# Altium schematic symbol library M2.SchLib: 1 symbol
Pins are listed as number, name and electrical type; pins without a type are passive.

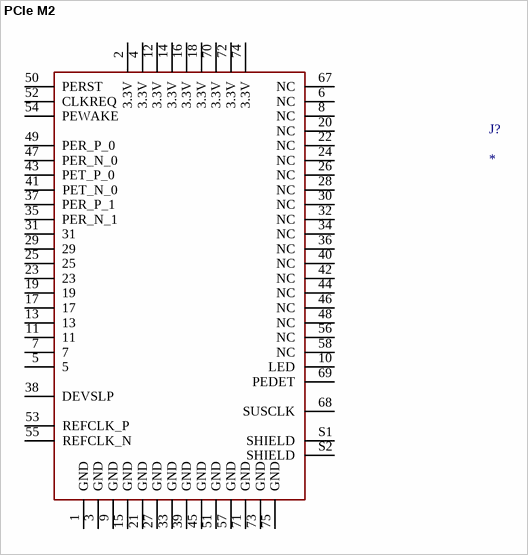
[diagram p0: symbol PCIe M2]

## PCIe M2
designator J?
PCIe M.2 Connectors, Storage and Server Connector, P=0.5mm, H=3.2mm, Key M,Gold Plating; MF: Amphenol; MP: MDT320M03001; SnapEDA_Link: https://www.snapeda.com/parts/MDT320M03001/Amphenol/view-part/?ref=snap; Package: None; Value: *; Check_prices: https://www.snapeda.com/parts/MDT320M03001/Amphenol/view-part/?ref=eda
footprint AMPHENOL_MDT320M03001
pins: 1 GND, 2 3.3V, 3 GND, 4 3.3V, 5, 6 NC, 7, 8 NC, 9 GND, 10 LED, 11, 12 3.3V, 13, 14 3.3V, 15 GND, 16 3.3V, 17, 18 3.3V, 19, 20 NC, 21 GND, 22 NC, 23, 24 NC, 25, 26 NC, 27 GND, 28 NC, 29, 30 NC, 31, 32 NC, 33 GND, 34 NC, 35 PER_N_1, 36 NC, 37 PER_P_1, 38 DEVSLP, 39 GND, 40 NC, 41 PET_N_0, 42 NC, 43 PET_P_0, 44 NC, 45 GND, 46 NC, 47 PER_N_0, 48 NC, 49 PER_P_0, 50 PERST, 51 GND, 52 CLKREQ, 53 REFCLK_P, 54 PEWAKE, 55 REFCLK_N, 56 NC, 57 GND, 58 NC, 67 NC, 68 SUSCLK, 69 PEDET, 70 3.3V, 71 GND, 72 3.3V, 73 GND, 74 3.3V, 75 GND, S1 SHIELD, S2 SHIELD